# Altium schematic symbol library Regulator.SchLib: 13 symbols
Pins are listed as number, name and electrical type; pins without a type are passive.

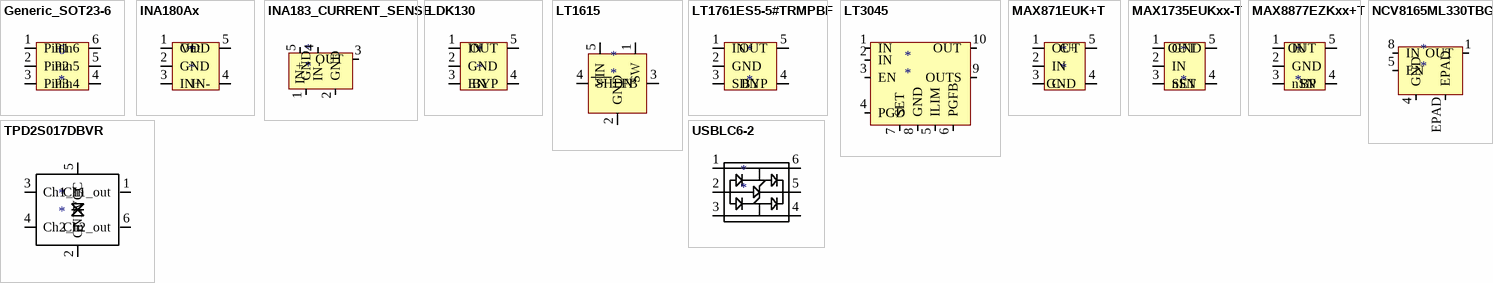
[diagram p0: symbols Generic_SOT23-6 to USBLC6-2]

## Generic_SOT23-6
designator 6
footprint SOT23-6 (Generic SOT23-6 footprint)
pins: 1 Pin1, 2 Pin2, 3 Pin3, 4 Pin4, 5 Pin5, 6 Pin6

## INA180Ax
designator *
INA180Ax Low- and High-SideVoltageOutput,Current-SenseAmplifiers
footprint INA180Ax (INA180AxLow- and High-SideVoltageOutput,Current-SenseAmplifiers)
pins: 1 Out, 2 GND, 3 IN+, 4 IN-, 5 VDD

## INA183_CURRENT_SENSE
designator *
2.7-V to 26-V, High-Precision Current Sense Amplifier
footprint INA183_CURRENT_SENSE (2.7-V to 26-V, High-Precision Current Sense Amplifier)
pins: 1 GND, 2 GND, 3 OUT, 4 IN-, 5 IN+

## LDK130
designator *
300 mA low quiescent current very low noise LDO
footprint LDK130 (300 mA low quiescent current very low noise LDO)
pins: 1 IN, 2 GND, 3 EN, 4 BYP, 5 OUT

## LT1615
designator *
Micropower Step-up DC/DC Converter in ThinSOT
footprint LT1615 (Micropower Step-up DC/DC Converter in ThinSOT)
pins: 1 SW, 2 GND, 3 FB, 4 SHDN, 5 VIN

## LT1761ES5-5#TRMPBF
designator *
footprint LT1761ES5-5#TRMPBF
pins: 1 IN, 2 GND, 3 SDN, 4 BYP, 5 OUT

## LT3045
designator *
20V, 500mA, Ultralow Noise, Ultrahigh PSRR LDO
footprint LT3045 (20V, 500mA, Ultralow Noise, Ultrahigh PSRR LDO)
pins: 1 IN, 2 IN, 3 EN, 4 PGD, 5 ILIM, 6 PGFB, 7 SET, 8 GND, 9 OUTS, 10 OUT

## MAX871EUK+T
designator *
500 kHz Switched-Capacitor Voltage Inverters
footprint MAX871EUK+T (500 kHz Switched-Capacitor Voltage Inverters)
pins: 1 OUT, 2 IN, 3 C-, 4 GND, 5 C+

## MAX1735EUKxx-T
designator *
LDO Spannungs-Regulator 200mA, Negative-Output, Low-Dropout Linear Regulator in SOT23
footprint MAX1735EUKxx-T (Fixed and adjustable negative LDO)
pins: 1 GND, 2 IN, 3 nSN, 4 SET, 5 OUT

## MAX8877EZKxx+T
designator *
LDO Spannungs-Regulator Low-Noise, Low-Dropout, 150mA Linear Regulators with '2982 Pinout
footprint MAX8877EZKxx+T (LDO Spannungs-Regulator Low-Noise, Low-Dropout, 150mA Linear Regulators with '2982 Pinout)
pins: 1 IN, 2 GND, 3 nSN, 4 BP, 5 OUT

## NCV8165ML330TBG
designator *
3V3 ON Semi LDO Spannungs-Regulator 500 mA
footprint NCV8165ML330TBG (3V3 ON Semi LDO Spannungs-Regulator 500 mA)
pins: 1 OUT, 4 GND, 5 EN, 8 IN, EPAD

## TPD2S017DBVR
designator *
2-Channel Ultra-Low Clamp Voltage ESD / Solution With Series-Resistor Isolation
footprint TPD2S017DBVR (2-Channel Ultra-Low Clamp Voltage ESD  Solution With Series-Resistor Isolation)
pins: 1 Ch1_out, 2 GND, 3 Ch1_In, 4 Ch2_in, 5 VCC, 6 Ch2_out

## USBLC6-2
designator *
Very low capacitance ESD protection for USB and Buses
footprint USBLC6-2 (Very low capacitance ESD protection for USB and buses)
pins: 1 (io), 2, 3 (io), 4 (io), 5, 6 (io)